# Altium schematic symbol library Lib.SchLib: 1 symbol
Pins are listed as number, name and electrical type; pins without a type are passive.

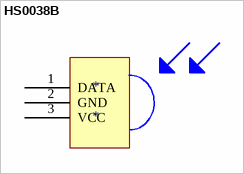
[diagram p0: symbol HS0038B]

## HS0038B
designator *
pins: 1 DATA, 2 GND, 3 VCC